# Altium footprint library Mcus.PcbLib: 18 footprints (part 1 of 2)
Each footprint in its own frame and in the unit in brackets; x right, y up, seen from the top. Pads: shape width x height; smd on the part's side, far side on the other; paste and mask are expansions set on the pad; w line width, h text height; cw(c..) or ccw(c..) is an arc to the next point about the centre after c.
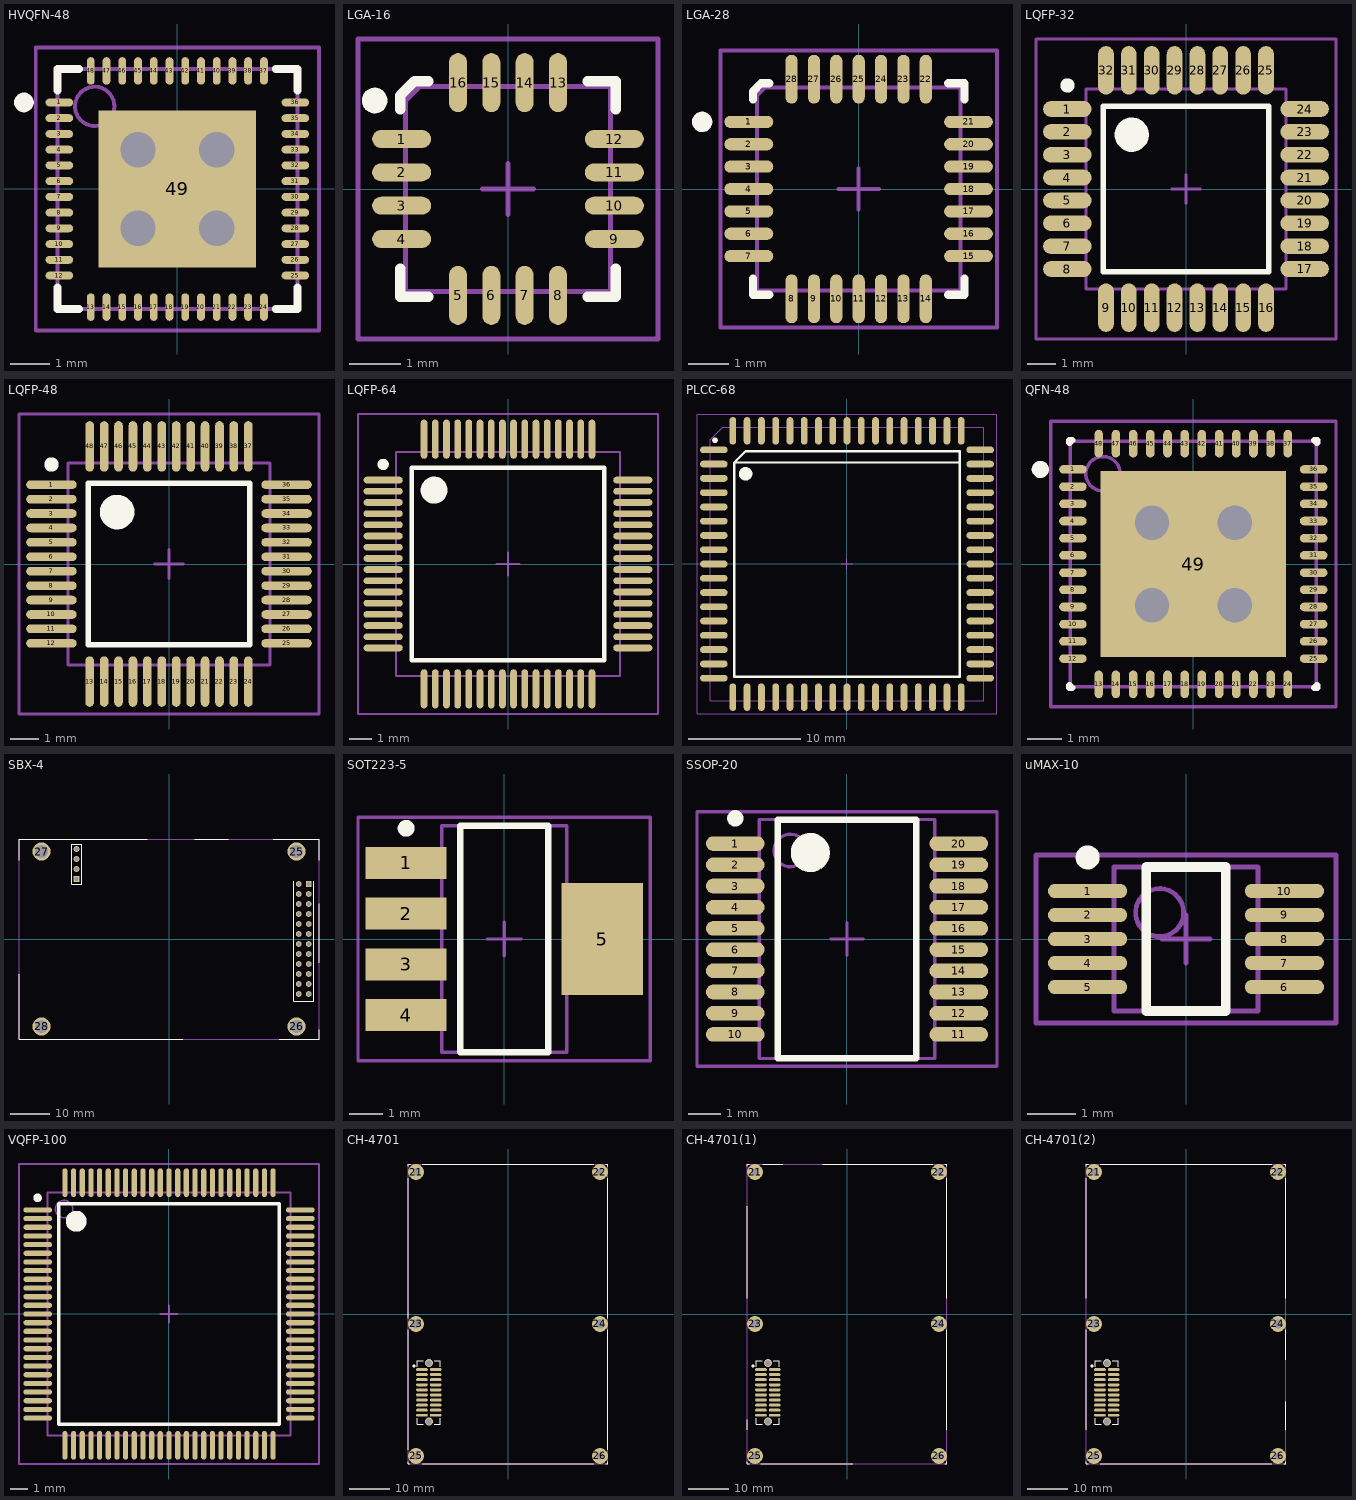
[diagram p0: the footprints below, top view; thin cyan lines are the x and y axes]

## HVQFN-48 [mm] "QFN, 48-Leads, Body 6,1x6,1mm (max), Pitch 0,40mm, IPC Medium Density"
height 1
pads (49):
  oval 0.7x0.2 smd: 1(-3,2.2) 2(-3,1.8) 3(-3,1.4) 4(-3,1) 5(-3,0.6) 6(-3,0.2) 7(-3,-0.2) 8(-3,-0.6) 9(-3,-1) 10(-3,-1.4) 11(-3,-1.8) 12(-3,-2.2) 25(3,-2.2) 26(3,-1.8) 27(3,-1.4) 28(3,-1) 29(3,-0.6) 30(3,-0.2) 31(3,0.2) 32(3,0.6) 33(3,1) 34(3,1.4) 35(3,1.8) 36(3,2.2)
  oval 0.2x0.7 smd: 13(-2.2,-3) 14(-1.8,-3) 15(-1.4,-3) 16(-1,-3) 17(-0.6,-3) 18(-0.2,-3) 19(0.2,-3) 20(0.6,-3) 21(1,-3) 22(1.4,-3) 23(1.8,-3) 24(2.2,-3) 37(2.2,3) 38(1.8,3) 39(1.4,3) 40(1,3) 41(0.6,3) 42(0.2,3) 43(-0.2,3) 44(-0.6,3) 45(-1,3) 46(-1.4,3) 47(-1.8,3) 48(-2.2,3)
  rect 4x4 smd: 49(0,0)
via 1,-1 diameter 1.5 hole 0.9
via -1,-1 diameter 1.5 hole 0.9
via -1,1 diameter 1.5 hole 0.9
via 1,1 diameter 1.5 hole 0.9
Top Overlay:
  circle w0.25: c-3.9,2.2 r0.125
  lines w0.2: -3.05,-2.5 -3.05,-3.05 -2.5,-3.05 ; -3.05,2.5 -3.05,3.05 -2.5,3.05 ; 2.5,-3.05 3.05,-3.05 3.05,-2.5 ; 2.5,3.05 3.05,3.05 3.05,2.5
Mechanical 13:
  circle w0.1: c-2.1,2.1 r0.5
  lines w0.1: -3.05,-3.05 -3.05,3.05 3.05,3.05 3.05,-3.05 -3.05,-3.05
Mechanical 15:
  lines w0.1: -0.5,0 0.5,0 ; 0,-0.5 0,0.5 ; -3.6,-3.6 -3.6,3.6 3.6,3.6 3.6,-3.6 -3.6,-3.6

## LGA-16 [mm] "LCC, 16-Pins, Body 4,2x4,2mm (max), Pitch 0,65mm, IPC Medium Density"
height 1.1
pads (16):
  oval 1.15x0.35 smd: 1(-2.075,0.975) 2(-2.075,0.325) 3(-2.075,-0.325) 4(-2.075,-0.975) 9(2.075,-0.975) 10(2.075,-0.325) 11(2.075,0.325) 12(2.075,0.975)
  oval 0.35x1.15 smd: 5(-0.975,-2.075) 6(-0.325,-2.075) 7(0.325,-2.075) 8(0.975,-2.075) 13(0.975,2.075) 14(0.325,2.075) 15(-0.325,2.075) 16(-0.975,2.075)
Top Overlay:
  circle w0.25: c-2.6,1.725 r0.125
  lines w0.2: -2.1,-1.55 -2.1,-2.1 -1.55,-2.1 ; -2.1,1.55 -2.1,1.825 -1.825,2.1 -1.55,2.1 ; 1.55,-2.1 2.1,-2.1 2.1,-1.55 ; 1.55,2.1 2.1,2.1 2.1,1.55
Mechanical 13:
  lines w0.1: -2,-2 2,-2 2,2 -1.725,2 -2,1.725 -2,-2
Mechanical 15:
  lines w0.1: -0.5,0 0.5,0 ; 0,-0.5 0,0.5 ; -2.925,-2.925 2.925,-2.925 2.925,2.925 -2.925,2.925 -2.925,-2.925

## LGA-28 [mm] "LCC, 28-Pins, Body 5,2x5,2mm (max), Pitch 0,55mm, IPC Medium Density"
height 1
pads (28):
  oval 1.2x0.3 smd: 1(-2.7,1.65) 2(-2.7,1.1) 3(-2.7,0.55) 4(-2.7,0) 5(-2.7,-0.55) 6(-2.7,-1.1) 7(-2.7,-1.65) 15(2.7,-1.65) 16(2.7,-1.1) 17(2.7,-0.55) 18(2.7,0) 19(2.7,0.55) 20(2.7,1.1) 21(2.7,1.65)
  oval 0.3x1.2 smd: 8(-1.65,-2.7) 9(-1.1,-2.7) 10(-0.55,-2.7) 11(0,-2.7) 12(0.55,-2.7) 13(1.1,-2.7) 14(1.65,-2.7) 22(1.65,2.7) 23(1.1,2.7) 24(0.55,2.7) 25(0,2.7) 26(-0.55,2.7) 27(-1.1,2.7) 28(-1.65,2.7)
Top Overlay:
  circle w0.25: c-3.85,1.65 r0.125
  lines w0.2: -2.6,-2.2 -2.6,-2.6 -2.2,-2.6 ; -2.6,2.2 -2.6,2.4 -2.4,2.6 -2.2,2.6 ; 2.2,-2.6 2.6,-2.6 2.6,-2.2 ; 2.2,2.6 2.6,2.6 2.6,2.2
Mechanical 13:
  lines w0.1: -2.5,-2.5 2.5,-2.5 2.5,2.5 -2.3,2.5 -2.5,2.3 -2.5,-2.5
Mechanical 15:
  lines w0.1: -0.5,0 0.5,0 ; 0,-0.5 0,0.5 ; -3.4,-3.4 3.4,-3.4 3.4,3.4 -3.4,3.4 -3.4,-3.4

## LQFP-32 [mm] "TQFP, 32-Leads, Body 9,2x9,2mm (max), Pitch 0,80mm, IPC Medium Density"
height 1.45
pads (32):
  oval 1.7x0.55 smd: 1(-4.15,2.8) 2(-4.15,2) 3(-4.15,1.2) 4(-4.15,0.4) 5(-4.15,-0.4) 6(-4.15,-1.2) 7(-4.15,-2) 8(-4.15,-2.8) 17(4.15,-2.8) 18(4.15,-2) 19(4.15,-1.2) 20(4.15,-0.4) 21(4.15,0.4) 22(4.15,1.2) 23(4.15,2) 24(4.15,2.8)
  oval 0.55x1.7 smd: 9(-2.8,-4.15) 10(-2,-4.15) 11(-1.2,-4.15) 12(-0.4,-4.15) 13(0.4,-4.15) 14(1.2,-4.15) 15(2,-4.15) 16(2.8,-4.15) 25(2.8,4.15) 26(2,4.15) 27(1.2,4.15) 28(0.4,4.15) 29(-0.4,4.15) 30(-1.2,4.15) 31(-2,4.15) 32(-2.8,4.15)
Top Overlay:
  circle w0.6: c-1.9,1.9 r0.3
  circle w0.25: c-4.15,3.625 r0.125
  lines w0.2: -2.9,-2.9 2.9,-2.9 2.9,2.9 -2.9,2.9 -2.9,-2.9
Mechanical 13:
  lines w0.1: -3.5,-3.5 3.5,-3.5 3.5,3.5 -3.5,3.5 -3.5,-3.5
Mechanical 15:
  lines w0.1: -0.5,0 0.5,0 ; 0,-0.5 0,0.5 ; -5.25,-5.25 5.25,-5.25 5.25,5.25 -5.25,5.25 -5.25,-5.25

## LQFP-48 [mm] "TSQFP, 48-Leads, Body 9,2x9,2mm (max), Pitch 0,50mm, IPC Medium Density"
height 1.6
pads (48):
  oval 1.75x0.3 smd: 1(-4.075,2.75) 2(-4.075,2.25) 3(-4.075,1.75) 4(-4.075,1.25) 5(-4.075,0.75) 6(-4.075,0.25) 7(-4.075,-0.25) 8(-4.075,-0.75) 9(-4.075,-1.25) 10(-4.075,-1.75) 11(-4.075,-2.25) 12(-4.075,-2.75) 25(4.075,-2.75) 26(4.075,-2.25) 27(4.075,-1.75) 28(4.075,-1.25) 29(4.075,-0.75) 30(4.075,-0.25) 31(4.075,0.25) 32(4.075,0.75) 33(4.075,1.25) 34(4.075,1.75) 35(4.075,2.25) 36(4.075,2.75)
  oval 0.3x1.75 smd: 13(-2.75,-4.075) 14(-2.25,-4.075) 15(-1.75,-4.075) 16(-1.25,-4.075) 17(-0.75,-4.075) 18(-0.25,-4.075) 19(0.25,-4.075) 20(0.75,-4.075) 21(1.25,-4.075) 22(1.75,-4.075) 23(2.25,-4.075) 24(2.75,-4.075) 37(2.75,4.075) 38(2.25,4.075) 39(1.75,4.075) 40(1.25,4.075) 41(0.75,4.075) 42(0.25,4.075) 43(-0.25,4.075) 44(-0.75,4.075) 45(-1.25,4.075) 46(-1.75,4.075) 47(-2.25,4.075) 48(-2.75,4.075)
Top Overlay:
  circle w0.25: c-4.075,3.45 r0.125
  circle w0.6: c-1.8,1.8 r0.3
  lines w0.2: -2.8,-2.8 -2.8,2.8 2.8,2.8 2.8,-2.8 -2.8,-2.8
Mechanical 13:
  lines w0.1: -3.5,-3.5 -3.5,3.5 3.5,3.5 3.5,-3.5 -3.5,-3.5
Mechanical 15:
  lines w0.1: -0.5,0 0.5,0 ; 0,-0.5 0,0.5 ; -5.2,-5.2 -5.2,5.2 5.2,5.2 5.2,-5.2 -5.2,-5.2
3D body "User Library-Quad50M48.step": height 1.56, standoff 0, extent -4.5,-4.5 4.5,4.5

## LQFP-64 [mm] "TSQFP, 64-Leads, Body 12,2x12,2mm (max), Pitch 0,50mm, IPC Medium Density"
height 1.6
pads (64):
  oval 1.75x0.3 smd: 1(-5.575,3.75) 2(-5.575,3.25) 3(-5.575,2.75) 4(-5.575,2.25) 5(-5.575,1.75) 6(-5.575,1.25) 7(-5.575,0.75) 8(-5.575,0.25) 9(-5.575,-0.25) 10(-5.575,-0.75) 11(-5.575,-1.25) 12(-5.575,-1.75) 13(-5.575,-2.25) 14(-5.575,-2.75) 15(-5.575,-3.25) 16(-5.575,-3.75) 33(5.575,-3.75) 34(5.575,-3.25) 35(5.575,-2.75) 36(5.575,-2.25) 37(5.575,-1.75) 38(5.575,-1.25) 39(5.575,-0.75) 40(5.575,-0.25) 41(5.575,0.25) 42(5.575,0.75) 43(5.575,1.25) 44(5.575,1.75) 45(5.575,2.25) 46(5.575,2.75) 47(5.575,3.25) 48(5.575,3.75)
  oval 0.3x1.75 smd: 17(-3.75,-5.575) 18(-3.25,-5.575) 19(-2.75,-5.575) 20(-2.25,-5.575) 21(-1.75,-5.575) 22(-1.25,-5.575) 23(-0.75,-5.575) 24(-0.25,-5.575) 25(0.25,-5.575) 26(0.75,-5.575) 27(1.25,-5.575) 28(1.75,-5.575) 29(2.25,-5.575) 30(2.75,-5.575) 31(3.25,-5.575) 32(3.75,-5.575) 49(3.75,5.575) 50(3.25,5.575) 51(2.75,5.575) 52(2.25,5.575) 53(1.75,5.575) 54(1.25,5.575) 55(0.75,5.575) 56(0.25,5.575) 57(-0.25,5.575) 58(-0.75,5.575) 59(-1.25,5.575) 60(-1.75,5.575) 61(-2.25,5.575) 62(-2.75,5.575) 63(-3.25,5.575) 64(-3.75,5.575)
Top Overlay:
  circle w0.6: c-3.3,3.3 r0.3
  circle w0.25: c-5.575,4.45 r0.125
  lines w0.2: -4.3,-4.3 4.3,-4.3 4.3,4.3 -4.3,4.3 -4.3,-4.3
Mechanical 13:
  lines w0.1: -5,-5 5,-5 5,5 -5,5 -5,-5
Mechanical 15:
  lines w0.1: -0.5,0 0.5,0 ; 0,-0.5 0,0.5 ; -6.7,-6.7 6.7,-6.7 6.7,6.7 -6.7,6.7 -6.7,-6.7

## PLCC-68 [mm] "PLCC, 68-Leads, Body 25,3x25,3mm (max), Pitch 1,270mm, IPC Medium Density"
height 4.57
pads (68):
  oval 2.45x0.6 smd: 1(-11.85,10.16) 2(-11.85,8.89) 3(-11.85,7.62) 4(-11.85,6.35) 5(-11.85,5.08) 6(-11.85,3.81) 7(-11.85,2.54) 8(-11.85,1.27) 9(-11.85,0) 10(-11.85,-1.27) 11(-11.85,-2.54) 12(-11.85,-3.81) 13(-11.85,-5.08) 14(-11.85,-6.35) 15(-11.85,-7.62) 16(-11.85,-8.89) 17(-11.85,-10.16) 35(11.85,-10.16) 36(11.85,-8.89) 37(11.85,-7.62) 38(11.85,-6.35) 39(11.85,-5.08) 40(11.85,-3.81) 41(11.85,-2.54) 42(11.85,-1.27) 43(11.85,0) 44(11.85,1.27) 45(11.85,2.54) 46(11.85,3.81) 47(11.85,5.08) 48(11.85,6.35) 49(11.85,7.62) 50(11.85,8.89) 51(11.85,10.16)
  oval 0.6x2.45 smd: 18(-10.16,-11.85) 19(-8.89,-11.85) 20(-7.62,-11.85) 21(-6.35,-11.85) 22(-5.08,-11.85) 23(-3.81,-11.85) 24(-2.54,-11.85) 25(-1.27,-11.85) 26(0,-11.85) 27(1.27,-11.85) 28(2.54,-11.85) 29(3.81,-11.85) 30(5.08,-11.85) 31(6.35,-11.85) 32(7.62,-11.85) 33(8.89,-11.85) 34(10.16,-11.85) 52(10.16,11.85) 53(8.89,11.85) 54(7.62,11.85) 55(6.35,11.85) 56(5.08,11.85) 57(3.81,11.85) 58(2.54,11.85) 59(1.27,11.85) 60(0,11.85) 61(-1.27,11.85) 62(-2.54,11.85) 63(-3.81,11.85) 64(-5.08,11.85) 65(-6.35,11.85) 66(-7.62,11.85) 67(-8.89,11.85) 68(-10.16,11.85)
Top Overlay:
  circle w0.25: c-11.75,11.01 r0.125
  circle w0.6: c-9.025,8.025 r0.3
  lines w0.2: 10.025,9.025 -10.025,9.025 ; -10.025,9.025 -9.025,10.025 10.025,10.025 10.025,-10.025 -10.025,-10.025 -10.025,9.025
Mechanical 13:
  lines w0.1: -12.165,-12.165 -12.165,11.065 -11.065,12.165 12.165,12.165 12.165,-12.165 -12.165,-12.165
Mechanical 15:
  lines w0.1: -0.5,0 0.5,0 ; 0,-0.5 0,0.5 ; -13.35,-13.35 -13.35,13.35 13.35,13.35 13.35,-13.35 -13.35,-13.35
3D body "User Library-8051 MCU PLCC 68-pin package.step": height 4.38, standoff 0, extent -12.6,-12.573 12.546,12.573

## QFN-48 [mm] "QFN, 48-Leads, Body 7,2x7,2mm (max), Pitch 0,50mm, IPC Medium Density"
height 1
pads (49):
  oval 0.8x0.25 smd: 1(-3.5,2.75) 2(-3.5,2.25) 3(-3.5,1.75) 4(-3.5,1.25) 5(-3.5,0.75) 6(-3.5,0.25) 7(-3.5,-0.25) 8(-3.5,-0.75) 9(-3.5,-1.25) 10(-3.5,-1.75) 11(-3.5,-2.25) 12(-3.5,-2.75) 25(3.5,-2.75) 26(3.5,-2.25) 27(3.5,-1.75) 28(3.5,-1.25) 29(3.5,-0.75) 30(3.5,-0.25) 31(3.5,0.25) 32(3.5,0.75) 33(3.5,1.25) 34(3.5,1.75) 35(3.5,2.25) 36(3.5,2.75)
  oval 0.25x0.8 smd: 13(-2.75,-3.5) 14(-2.25,-3.5) 15(-1.75,-3.5) 16(-1.25,-3.5) 17(-0.75,-3.5) 18(-0.25,-3.5) 19(0.25,-3.5) 20(0.75,-3.5) 21(1.25,-3.5) 22(1.75,-3.5) 23(2.25,-3.5) 24(2.75,-3.5) 37(2.75,3.5) 38(2.25,3.5) 39(1.75,3.5) 40(1.25,3.5) 41(0.75,3.5) 42(0.25,3.5) 43(-0.25,3.5) 44(-0.75,3.5) 45(-1.25,3.5) 46(-1.75,3.5) 47(-2.25,3.5) 48(-2.75,3.5)
  rect 5.4x5.4 smd: 49(0,0)
via -1.2,1.2 diameter 1.5 hole 1
via 1.2,1.2 diameter 1.5 hole 1
via 1.2,-1.2 diameter 1.5 hole 1
via -1.2,-1.2 diameter 1.5 hole 1
Top Overlay:
  circle w0.25: c-4.45,2.75 r0.125
  lines w0.2: -3.6,-3.525 -3.6,-3.6 -3.525,-3.6 ; -3.6,3.525 -3.6,3.6 -3.525,3.6 ; 3.525,-3.6 3.6,-3.6 3.6,-3.525 ; 3.525,3.6 3.6,3.6 3.6,3.525
Mechanical 13:
  circle w0.1: c-2.625,2.625 r0.5
  lines w0.1: -3.575,-3.575 -3.575,3.575 3.575,3.575 3.575,-3.575 -3.575,-3.575
Mechanical 15:
  lines w0.1: -0.5,0 0.5,0 ; 0,-0.5 0,0.5 ; -4.15,-4.15 -4.15,4.15 4.15,4.15 4.15,-4.15 -4.15,-4.15

## SBX-4 [mm]
pads (32):
  rect 1.5x1.5 hole 0.9: 1(35.505,13.97) 101(-23.495,15.24)
  round 1.5 hole 0.9: 2(32.965,13.97) 3(35.505,11.43) 4(32.965,11.43) 5(35.505,8.89) 6(32.965,8.89) 7(35.505,6.35) 8(32.965,6.35) 9(35.505,3.81) 10(32.965,3.81) 11(35.505,1.27) 12(32.965,1.27) 13(35.505,-1.27) 14(32.965,-1.27) 15(35.505,-3.81) 16(32.965,-3.81) 17(35.505,-6.35) 18(32.965,-6.35) 19(35.505,-8.89) 20(32.965,-8.89) 21(35.505,-11.43) 22(32.965,-11.43) 23(35.505,-13.97) 24(32.965,-13.97) 102(-23.495,17.78) 103(-23.495,20.32) 104(-23.495,22.86)
  round 4.6 hole 3.2: 25(32.385,22.225) 26(32.385,-22.225) 27(-32.385,22.225) 28(-32.385,-22.225)
Top Overlay:
  lines w0.2: -38.1,-9 -38.1,-25.4 3.5,-25.4 ; -38.1,20 -38.1,25.4 -5.5,25.4 ; 6.5,25.4 15,25.4 ; 26.5,25.4 38.1,25.4 38.1,20 ; 28,-25.4 38.1,-25.4 38.1,-23 ; 31.695,14.695 31.695,-15.85 36.775,-15.85 36.775,14.725 ; 38.1,-6 38.1,9 ; -24.765,13.97 -24.765,24.13 -22.225,24.13 -22.225,13.97 -24.765,13.97
Mechanical 2:
  lines w0.2: -38.1,-25.4 38.1,-25.4 38.1,25.4 -38.1,25.4 -38.1,-25.4

## SOT223-5 [mm] "SOT223, 5-Leads, Body 6,7x7,3mm (max), Pitch 1,50mm, IPC Medium Density"
height 1.6
pads (5):
  rect 2.4x0.95 smd: 1(-2.9,2.25) 2(-2.9,0.75) 3(-2.9,-0.75) 4(-2.9,-2.25)
  rect 2.4x3.3 smd: 5(2.9,0)
Top Overlay:
  circle w0.25: c-2.9,3.275 r0.125
  lines w0.2: -1.3,-3.35 -1.3,3.35 1.3,3.35 1.3,-3.35 -1.3,-3.35
Mechanical 13:
  lines w0.1: -1.85,-3.35 -1.85,3.35 1.85,3.35 1.85,-3.35 -1.85,-3.35
Mechanical 15:
  lines w0.1: -0.5,0 0.5,0 ; 0,-0.5 0,0.5 ; -4.325,-3.6 -4.325,3.6 4.325,3.6 4.325,-3.6 -4.325,-3.6
3D body "User Library-SOT223-5.step": height 1.7, standoff 0, extent -3.46,-3.25 3.5,3.25

## SSOP-20 [mm] "SOP, 20-Leads, Body 7,3x5,4mm (max), Pitch 0,65mm, IPC Medium Density"
height 1.99
pads (20):
  oval 1.8x0.45 smd: 1(-3.425,2.925) 2(-3.425,2.275) 3(-3.425,1.625) 4(-3.425,0.975) 5(-3.425,0.325) 6(-3.425,-0.325) 7(-3.425,-0.975) 8(-3.425,-1.625) 9(-3.425,-2.275) 10(-3.425,-2.925) 11(3.425,-2.925) 12(3.425,-2.275) 13(3.425,-1.625) 14(3.425,-0.975) 15(3.425,-0.325) 16(3.425,0.325) 17(3.425,0.975) 18(3.425,1.625) 19(3.425,2.275) 20(3.425,2.925)
Top Overlay:
  circle w0.25: c-3.425,3.7 r0.125
  circle w0.6: c-1.125,2.65 r0.3
  lines w0.2: -2.125,-3.65 -2.125,3.65 2.125,3.65 2.125,-3.65 -2.125,-3.65
Mechanical 13:
  circle w0.1: c-1.74,2.715 r0.5
  lines w0.1: -2.69,-3.665 -2.69,3.665 2.69,3.665 2.69,-3.665 -2.69,-3.665
Mechanical 15:
  lines w0.1: -0.5,0 0.5,0 ; 0,-0.5 0,0.5 ; -4.6,-3.9 -4.6,3.9 4.6,3.9 4.6,-3.9 -4.6,-3.9
3D body "User Library-SSOP 20 PIN-1.step": height 1.78, standoff -0.21, extent -3.95,-3.655 3.95,3.675

## uMAX-10 [mm] "TSSOP, 10-Leads, Body 3,0x3,0mm (max), Pitch 0,50mm, IPC Medium Density"
height 1.1
pads (10):
  oval 1.65x0.3 smd: 1(-2.05,1) 2(-2.05,0.5) 3(-2.05,0) 4(-2.05,-0.5) 5(-2.05,-1) 6(2.05,-1) 7(2.05,-0.5) 8(2.05,0) 9(2.05,0.5) 10(2.05,1)
Top Overlay:
  circle w0.25: c-2.05,1.7 r0.125
  lines w0.2: -0.825,-1.5 -0.825,1.5 0.825,1.5 0.825,-1.5 -0.825,-1.5
Mechanical 13:
  circle w0.1: c-0.55,0.55 r0.5
  lines w0.1: -1.5,-1.5 -1.5,1.5 1.5,1.5 1.5,-1.5 -1.5,-1.5
Mechanical 15:
  lines w0.1: -0.5,0 0.5,0 ; 0,-0.5 0,0.5 ; -3.125,-1.75 -3.125,1.75 3.125,1.75 3.125,-1.75 -3.125,-1.75
3D body "SW3dPS-uMAX10.STEP": height 0.95, standoff 0, extent -2.5,-1.5 2.5,1.5

## VQFP-100 [mm] "TSQFP, 100-Leads, Body 16,0x16,0mm (max), Pitch 0,50mm, IPC Medium Density"
height 1.2
pads (100):
  oval 1.65x0.3 smd: 1(-7.575,6) 2(-7.575,5.5) 3(-7.575,5) 4(-7.575,4.5) 5(-7.575,4) 6(-7.575,3.5) 7(-7.575,3) 8(-7.575,2.5) 9(-7.575,2) 10(-7.575,1.5) 11(-7.575,1) 12(-7.575,0.5) 13(-7.575,0) 14(-7.575,-0.5) 15(-7.575,-1) 16(-7.575,-1.5) 17(-7.575,-2) 18(-7.575,-2.5) 19(-7.575,-3) 20(-7.575,-3.5) 21(-7.575,-4) 22(-7.575,-4.5) 23(-7.575,-5) 24(-7.575,-5.5) 25(-7.575,-6) 51(7.575,-6) 52(7.575,-5.5) 53(7.575,-5) 54(7.575,-4.5) 55(7.575,-4) 56(7.575,-3.5) 57(7.575,-3) 58(7.575,-2.5) 59(7.575,-2) 60(7.575,-1.5) 61(7.575,-1) 62(7.575,-0.5) 63(7.575,0) 64(7.575,0.5) 65(7.575,1) 66(7.575,1.5) 67(7.575,2) 68(7.575,2.5) 69(7.575,3) 70(7.575,3.5) 71(7.575,4) 72(7.575,4.5) 73(7.575,5) 74(7.575,5.5) 75(7.575,6)
  oval 0.3x1.65 smd: 26(-6,-7.575) 27(-5.5,-7.575) 28(-5,-7.575) 29(-4.5,-7.575) 30(-4,-7.575) 31(-3.5,-7.575) 32(-3,-7.575) 33(-2.5,-7.575) 34(-2,-7.575) 35(-1.5,-7.575) 36(-1,-7.575) 37(-0.5,-7.575) 38(0,-7.575) 39(0.5,-7.575) 40(1,-7.575) 41(1.5,-7.575) 42(2,-7.575) 43(2.5,-7.575) 44(3,-7.575) 45(3.5,-7.575) 46(4,-7.575) 47(4.5,-7.575) 48(5,-7.575) 49(5.5,-7.575) 50(6,-7.575) 76(6,7.575) 77(5.5,7.575) 78(5,7.575) 79(4.5,7.575) 80(4,7.575) 81(3.5,7.575) 82(3,7.575) 83(2.5,7.575) 84(2,7.575) 85(1.5,7.575) 86(1,7.575) 87(0.5,7.575) 88(0,7.575) 89(-0.5,7.575) 90(-1,7.575) 91(-1.5,7.575) 92(-2,7.575) 93(-2.5,7.575) 94(-3,7.575) 95(-3.5,7.575) 96(-4,7.575) 97(-4.5,7.575) 98(-5,7.575) 99(-5.5,7.575) 100(-6,7.575)
Top Overlay:
  circle w0.25: c-7.575,6.7 r0.125
  circle w0.6: c-5.35,5.35 r0.3
  lines w0.2: -6.35,-6.35 -6.35,6.35 6.35,6.35 6.35,-6.35 -6.35,-6.35
Mechanical 13:
  circle w0.1: c-6.05,6.05 r0.5
  lines w0.1: -7,-7 -7,7 7,7 7,-7 -7,-7
Mechanical 15:
  lines w0.1: -0.5,0 0.5,0 ; 0,-0.5 0,0.5 ; -8.65,-8.65 -8.65,8.65 8.65,8.65 8.65,-8.65 -8.65,-8.65
3D body "User Library-IPC QFP-full.step": height 1.6, standoff 0, extent -8.014,-8.028 8.014,8

## СН-4701 [mm] "Разъем для СН-4701"
pads (26):
  oval 2.92x0.74 smd: 1(-21.515,-13.885) 2(-18.085,-13.885) 3(-21.515,-15.155) 4(-18.085,-15.155) 5(-21.515,-16.425) 6(-18.085,-16.425) 7(-21.515,-17.695) 8(-18.085,-17.695) 9(-21.515,-18.965) 10(-18.085,-18.965) 11(-21.515,-20.235) 12(-18.085,-20.235) 13(-21.515,-21.505) 14(-18.085,-21.505) 15(-21.515,-22.775) 16(-18.085,-22.775) 17(-21.515,-24.045) 18(-18.085,-24.045) 19(-21.515,-25.315) 20(-18.085,-25.315)
  round 4 hole 1.8 unplated: 21(-23,35.5) 22(23,35.5) 25(-23,-35.5) 26(23,-35.5)
  round 4 hole 2.2 unplated: 23(-23,-2.5) 24(23,-2.5)
via -19.8,-26.905 diameter 2 hole 1.35
via -19.8,-12.295 diameter 2 hole 1.35
Top Overlay:
  circle w0.4: c-23.5,-13 r0.2
  lines w0.2: -25,-37 -25,-37.4 -24.6,-37.4 ; -25,-34 -25,-4 ; -25,-1 -25,34 ; -25,37 -25,37.5 -24.5,37.5 ; -22.66,-26.04 -22.66,-27.54 -21.16,-27.54 ; -22.66,-13.16 -22.66,-11.66 -21.16,-11.66 ; -21.5,-37.5 21.5,-37.5 ; -21.5,37.5 21.5,37.5 ; -18.44,-27.54 -16.94,-27.54 -16.94,-26.04 ; -18.44,-11.66 -16.94,-11.66 -16.94,-13.16 ; 24.5,-37.5 25,-37.5 25,-37 ; 24.5,37.5 25,37.5 25,37 ; 25,-34 25,-4 ; 25,-1 25,34
Mechanical 2:
  lines w0.2: -25,-37.5 25,-37.5 25,37.5 -25,37.5 -25,-37.5

## СН-4701(1) [mm] "Разъем для СН-4701"
pads (26):
  oval 2.92x0.74 smd: 1(-21.515,-13.885) 2(-18.085,-13.885) 3(-21.515,-15.155) 4(-18.085,-15.155) 5(-21.515,-16.425) 6(-18.085,-16.425) 7(-21.515,-17.695) 8(-18.085,-17.695) 9(-21.515,-18.965) 10(-18.085,-18.965) 11(-21.515,-20.235) 12(-18.085,-20.235) 13(-21.515,-21.505) 14(-18.085,-21.505) 15(-21.515,-22.775) 16(-18.085,-22.775) 17(-21.515,-24.045) 18(-18.085,-24.045) 19(-21.515,-25.315) 20(-18.085,-25.315)
  round 4 hole 1.8: 21(-23,35.5) 22(23,35.5) 25(-23,-35.5) 26(23,-35.5)
  round 4 hole 2.2: 23(-23,-2.5) 24(23,-2.5)
via -19.8,-26.905 diameter 2 hole 1.35
via -19.8,-12.295 diameter 2 hole 1.35
Top Overlay:
  circle w0.4: c-23.5,-13 r0.2
  lines w0.2: -25,-37 -25,-37.5 -24.5,-37.5 ; -25,-29 -25,-26.5 ; -25,4 -25,27 ; -25,37 -25,37.5 -24.5,37.5 ; -22.66,-26.04 -22.66,-27.54 -21.16,-27.54 ; -22.66,-13.16 -22.66,-11.66 -21.16,-11.66 ; -21.5,-37.5 1.5,-37.5 ; -21,37.5 -16,37.5 ; -18.44,-27.54 -16.94,-27.54 -16.94,-26.04 ; -18.44,-11.66 -16.94,-11.66 -16.94,-13.16 ; -6,37.5 21.5,37.5 ; 24.5,-37.5 25,-37.5 25,-37 ; 24.5,37.5 25,37.5 25,37 ; 25,-29 25,-4 ; 25,4 25,34
Mechanical 2:
  lines w0.2: -25,-37.5 25,-37.5 25,37.5 -25,37.5 -25,-37.5
3D body "TFM-110-02-X-D-A.step": height 5.74, standoff -0.99, extent -22.785,-27.55 -16.816,-11.675

## СН-4701(2) [mm] "Разъем для СН-4701"
pads (26):
  oval 2.92x0.74 smd: 1(-21.515,-13.885) 2(-18.085,-13.885) 3(-21.515,-15.155) 4(-18.085,-15.155) 5(-21.515,-16.425) 6(-18.085,-16.425) 7(-21.515,-17.695) 8(-18.085,-17.695) 9(-21.515,-18.965) 10(-18.085,-18.965) 11(-21.515,-20.235) 12(-18.085,-20.235) 13(-21.515,-21.505) 14(-18.085,-21.505) 15(-21.515,-22.775) 16(-18.085,-22.775) 17(-21.515,-24.045) 18(-18.085,-24.045) 19(-21.515,-25.315) 20(-18.085,-25.315)
  round 4 hole 1.8: 21(-23,35.5) 22(23,35.5) 25(-23,-35.5) 26(23,-35.5)
  round 4 hole 2.2: 23(-23,-2.5) 24(23,-2.5)
via -19.8,-26.905 diameter 2 hole 1.35
via -19.8,-12.295 diameter 2 hole 1.35
Top Overlay:
  circle w0.4: c-23.5,-13 r0.2
  lines w0.2: -25,-37 -25,-37.5 -24.5,-37.5 ; -25,-29 -25,-4 ; -25,4 -25,34 ; -25,37 -25,37.5 -24.5,37.5 ; -22.66,-26.04 -22.66,-27.54 -21.16,-27.54 ; -22.66,-13.16 -22.66,-11.66 -21.16,-11.66 ; -21.5,-37.5 21.5,-37.5 ; -21.5,37.5 21.5,37.5 ; -18.44,-27.54 -16.94,-27.54 -16.94,-26.04 ; -18.44,-11.66 -16.94,-11.66 -16.94,-13.16 ; 24.5,-37.5 25,-37.5 25,-37 ; 24.5,37.5 25,37.5 25,37 ; 25,-29 25,-22 ; 25,-11.5 25,-4 ; 25,4 25,34
Mechanical 2:
  lines w0.2: -25,-37.5 25,-37.5 25,37.5 -25,37.5 -25,-37.5
3D body "TFM-110-02-X-D-A.step": height 5.74, standoff -0.99, extent -22.785,-27.55 -16.816,-11.675